# Altium schematic symbol library RC0402FR0749R9L.SchLib: 2 symbols
Pins are listed as number, name and electrical type; pins without a type are passive.

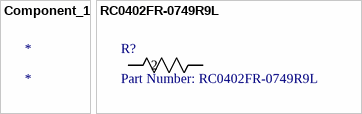
[diagram p0: symbols Component_1 to RC0402FR-0749R9L]

## Component_1
designator *

## RC0402FR-0749R9L
designator R?, comment Part Number: RC0402FR-0749R9L
No Description Available; Vendor: Yageo; Built_By: EMA_UL_Team; Manufacturer_Part_Number: RC0402FR-0749R9L; Copyright: Copyright (C) 2018 Accelerated Designs. All rights reserved; RefDes: RefDes; Type: DEV; Value: Value
footprint RC0402N
pins: 1, 2